# EAGLE library part HEADER2X3 (library MyLibrary)
6-pin Header (2*3)
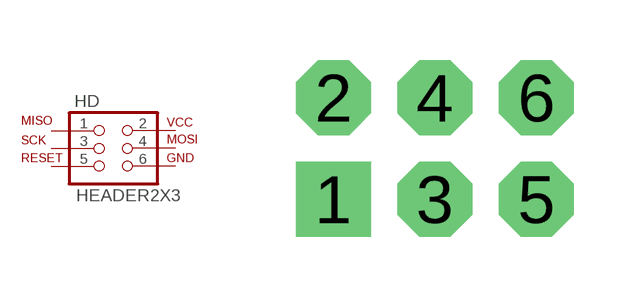
[diagram p6: symbol with the pads of DIP2X3; footprint DIP2X3]

Designator prefix HD

## HEADER2X3-DIP  [DIP2X3]
1  1  pas
2  2  pas
3  3  pas
4  4  pas
5  5  pas
6  6  pas

## Footprint DIP2X3 (pad centres in mm)
6-pin Header (2x3)
drill 1.016 pad 1.88 square: 1 -2.54,-1.27
drill 1.016 pad 1.88 octagon: 2 -2.54,1.27; 3 0,-1.27; 4 0,1.27; 5 2.54,-1.27; 6 2.54,1.27